# Altium schematic symbol library CDSOT23-T24CAN.SchLib: 1 symbol
Pins are listed as number, name and electrical type; pins without a type are passive.

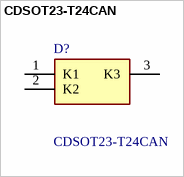
[diagram p0: symbol CDSOT23-T24CAN]

## CDSOT23-T24CAN
designator D?
Bourns CDSOT23-T24CAN, Dual Bi-Directional ESD Protection Diode, 3-Pin SOT-23; Geometry.Height: 1.17mm; Mouser Part Number: 652-CDSOT23-T24CAN; Mouser Price/Stock: https://www.mouser.co.uk/ProductDetail/Bourns/CDSOT23-T24CAN?qs=Z7P4xsdcg2LuAOb%2FzQ7xoQ%3D%3D; Manufacturer_Name: Bourns; Manufacturer_Part_Number: CDSOT23-T24CAN; Datasheet Link: https://www.bourns.com/docs/Product-Datasheets/CDSOT23-T24CAN.pdf
footprint SOT95P230X117-3N
pins: 1 K1, 2 K2, 3 K3